# Altium schematic symbol library RSX_Telemetry.SchLib: 1 symbol
Pins are listed as number, name and electrical type; pins without a type are passive.

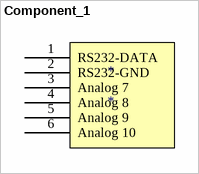
[diagram p0: symbol Component_1]

## Component_1
designator *
pins: 1 RS232-DATA, 2 RS232-GND, 3 Analog 7, 4 Analog 8, 5 Analog 9, 6 Analog 10